# EAGLE library part TI-TPS61090RSAR (library ClintonLib)
2A Synchronous Boost Converter, 1.8V-5.5Vin, 5.5 Max Vout
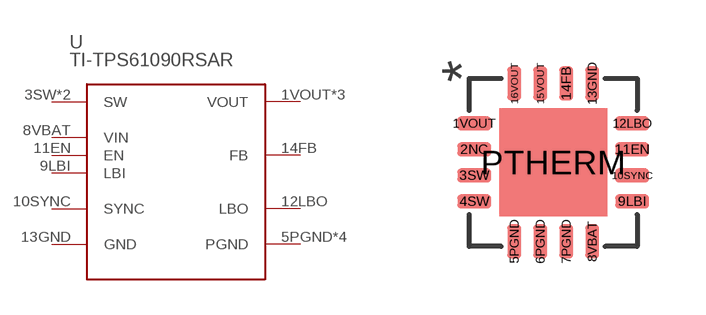
[diagram p8: symbol with the pads of TI-TPS61090RSAR; footprint TI-TPS61090RSAR]

Designator prefix -

## TI-TPS61090RSAR  [TI-TPS61090RSAR]
1VOUT  VOUT
3SW  SW
4SW  SW
5PGND  PGND
6PGND  PGND
7PGND  PGND
8VBAT  VIN
9LBI  LBI
10SYNC  SYNC
11EN  EN
12LBO  LBO
13GND  GND
14FB  FB
15VOUT  VOUT
16VOUT  VOUT
PTHERM  PGND

## Footprint TI-TPS61090RSAR (pad centres in mm)
2A boost converter, 1.8-5.5V Not tested
smd 0.85 x 0.35: 1VOUT -1.975,0.975; 2NC -1.975,0.325; 3SW -1.975,-0.325; 4SW -1.975,-0.975; 9LBI 1.975,-0.975; 10SYNC 1.975,-0.325; 11EN 1.975,0.325; 12LBO 1.975,0.975
smd 0.35 x 0.85: 5PGND -0.975,-1.975; 6PGND -0.325,-1.975; 7PGND 0.325,-1.975; 8VBAT 0.975,-1.975; 13GND 0.975,1.975; 14FB 0.325,1.975; 15VOUT -0.325,1.975; 16VOUT -0.975,1.975
smd 2.7 x 2.7: PTHERM 0,0